# Altium schematic symbol library Schlib.SchLib: 58 symbols (part 1 of 3)
Pins are listed as number, name and electrical type; pins without a type are passive.

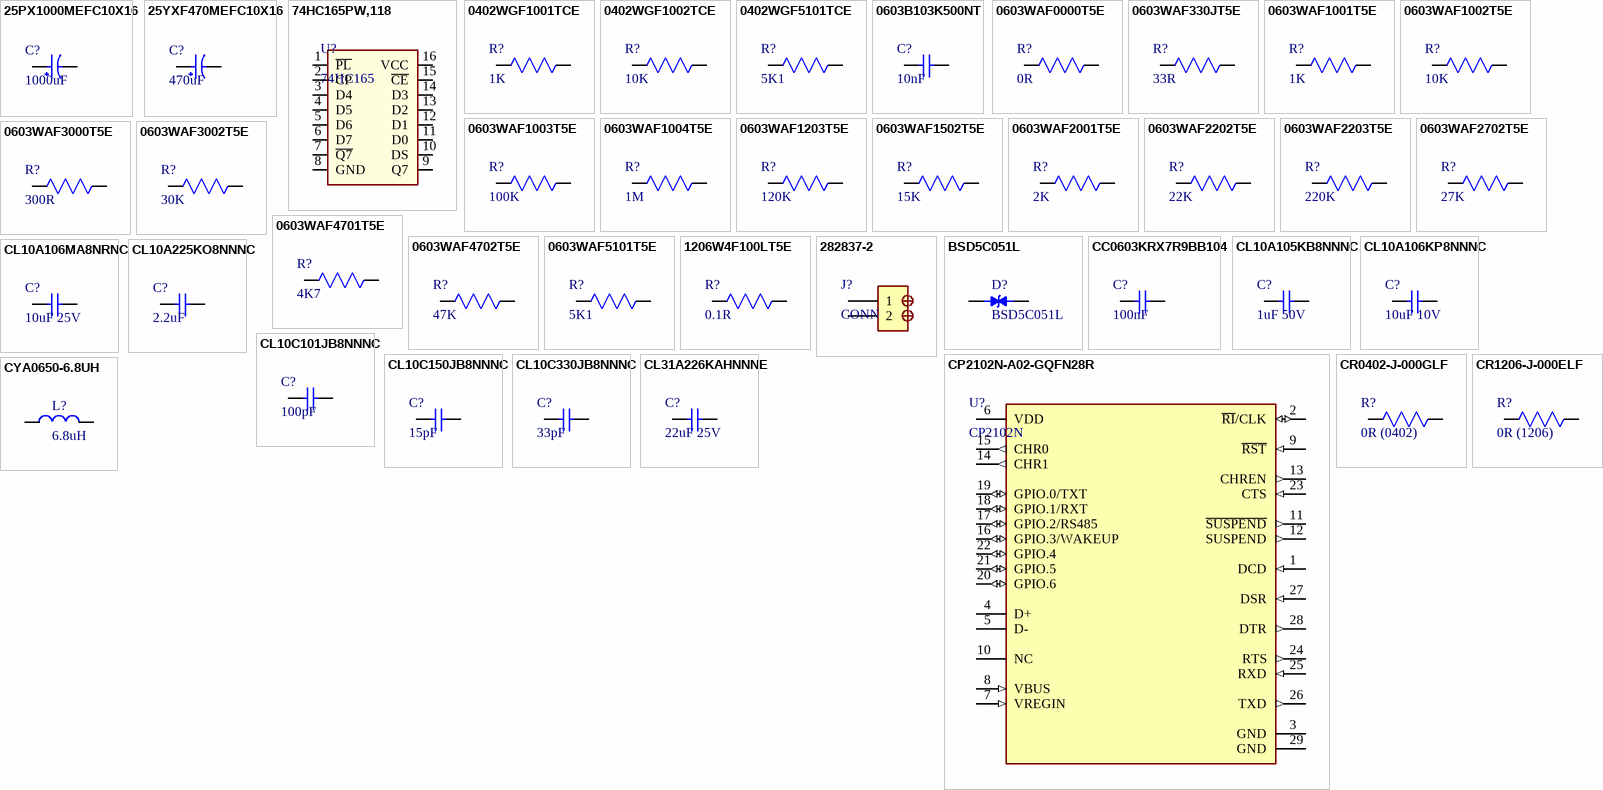
[diagram p0: symbols 25PX1000MEFC10X16 to CYA0650-6.8UH]

## 25PX1000MEFC10X16
designator C?, comment 1000uF
Radial Can ALUMINUM ELECTROLYTIC CAPACITOR PX 25V 1000uF ±20% 0.394Dia 10.00mm; Manufacturer: Rubycon; Manufacturer Part Number: 25PX1000MEFC10X16; Leakage Current: 250µA; Life (Hours): 2000hours; Polarity: Polar; Ripple Current: 740mA; Supplier: DigiKey; Supplier Part Number: 1189-3681-ND; RoHS: Compliant; Category: Aluminum Electrolytic Capacitors; Stock: 34; Pricing: 1=0.69, 10=0.433, 50=0.3236, 100=0.2888, 500=0.22892, 1000=0.21, 3000=0.18634, 5000=0.17749 (USD); Value: 1000uF; Case/Package: Radial; Country of Origin: Japan; Diameter: 10mm; Export Control Classification Number (ECCN) Code: EAR99; Height: 16mm; Height - Seated (Max): 17.4752mm; Harmonized Tariff Schedule (HTS) Code: 8532.22.00.20; Introduction Date: 2011-09-22; Lead Pitch: 5mm; Length: 16mm; Lifecycle Status: Production; Max Operating Temperature: 105°C; Min Operating Temperature: -55°C; Mounting Technology: Through Hole; Pins: 2; Number of Terminals: 2; Packaging: Bulk; Radiation Hardening: No; REACH SVHC: Yes; Terminal Pitch: 5mm; Termination: Radial; Tolerance: 20%; Voltage Rating: 25V; Voltage Rating (DC): 25V; ComponentLink1URL: https://datasheet.octopart.com:443/25PX1000MEFC10X16-Rubycon-datasheet-159569471.pdf?src-supplier=IHS; ComponentLink1Description: https://datasheet.octopart.com:443/25PX1000MEFC10X16-Rubycon-datasheet-159569471.pdf?src-supplier=IHS; ComponentLink2URL: https://datasheet.octopart.com:443/25PX1000MEFC10X16-Rubycon-datasheet-86451557.pdf?src-supplier=Master+Electronics; ComponentLink2Description: https://datasheet.octopart.com:443/25PX1000MEFC10X16-Rubycon-datasheet-86451557.pdf?src-supplier=Master+Electronics; ComponentLink3URL: https://datasheet.octopart.com:443/25PX1000MEFC10X16-Rubycon-datasheet-41169268.pdf?src-supplier=Farnell; ComponentLink3Description: https://datasheet.octopart.com:443/25PX1000MEFC10X16-Rubycon-datasheet-41169268.pdf?src-supplier=Farnell; ComponentLink4URL: https://datasheet.octopart.com:443/25PX1000MEFC10X16-Rubycon-datasheet-12529491.pdf?src-supplier=Future+Electronics; ComponentLink4Description: https://datasheet.octopart.com:443/25PX1000MEFC10X16-Rubycon-datasheet-12529491.pdf?src-supplier=Future+Electronics; ComponentLink5URL: https://datasheet.octopart.com:443/25PX1000MEFC10X16-Rubycon-datasheet-155906914.pdf?src-supplier=Future+Electronics; ComponentLink5Description: https://datasheet.octopart.com:443/25PX1000MEFC10X16-Rubycon-datasheet-155906914.pdf?src-supplier=Future+Electronics
footprint Cap_D10xP5xL16
pins: 1, 2

## 25YXF470MEFC10X16
designator C?, comment 470uF
Radial Can ALUMINUM ELECTROLYTIC CAPACITOR YXF 25V 470muF 卤20% 0.394Dia 10.00mm; Manufacturer: Rubycon; Manufacturer Part Number: 25YXF470MEFC10X16; Value: 470µF; Dielectric Material: Aluminium; Impedance: 120mΩ; Leakage Current: 117.5µA; Life (Hours): 7000hours; Ripple Current: 577.5mA; Tolerance: 20%; Supplier: Arrow Electronics; Supplier Part Number: 25YXF470MEFC10X16; RoHS: Compliant; Category: Aluminum Electrolytic Capacitors; Case/Package: Radial; Diameter: 10mm; Height: 16mm; Height - Seated (Max): 17.5006mm; Lead Free: Lead Free; Lead Pitch: 5mm; Length: 16mm; Lifecycle Status: Obsolete; Max Operating Temperature: 105°C; Min Operating Temperature: -40°C; Mounting Technology: Through Hole; Pins: 2; Number of Terminals: 2; Packaging: Bulk; Radiation Hardening: No; REACH SVHC: Yes; Schedule B: 8532220020; Terminal Pitch: 5mm; Termination: Radial; Voltage Rating: 25V; Voltage Rating (DC): 25V; ComponentLink1URL: https://datasheet.octopart.com:443/25YXF470MEFC10X16-Rubycon-datasheet-182101233.pdf?src-supplier=IHS; ComponentLink1Description: https://datasheet.octopart.com:443/25YXF470MEFC10X16-Rubycon-datasheet-182101233.pdf?src-supplier=IHS; ComponentLink2URL: https://datasheet.octopart.com:443/25YXF470MEFC10X16-Rubycon-datasheet-12512315.pdf?src-supplier=LKR; ComponentLink2Description: https://datasheet.octopart.com:443/25YXF470MEFC10X16-Rubycon-datasheet-12512315.pdf?src-supplier=LKR; ComponentLink3URL: https://datasheet.octopart.com:443/25YXF470MEFC10X16-Rubycon-datasheet-11966930.pdf?src-supplier=element14+APAC; ComponentLink3Description: https://datasheet.octopart.com:443/25YXF470MEFC10X16-Rubycon-datasheet-11966930.pdf?src-supplier=element14+APAC; ComponentLink4URL: https://datasheet.octopart.com:443/25YXF470MEFC10X16-Rubycon-datasheet-10032391.pdf?src-supplier=element14+APAC; ComponentLink4Description: https://datasheet.octopart.com:443/25YXF470MEFC10X16-Rubycon-datasheet-10032391.pdf?src-supplier=element14+APAC; ComponentLink5URL: https://datasheet.octopart.com:443/25YXF470MEFC10X16-Rubycon-datasheet-8447018.pdf?src-supplier=element14+APAC; ComponentLink5Description: https://datasheet.octopart.com:443/25YXF470MEFC10X16-Rubycon-datasheet-8447018.pdf?src-supplier=element14+APAC; ComponentLink6URL: https://datasheet.octopart.com:443/25YXF470MEFC10X16-Rubycon-datasheet-5377913.pdf?src-supplier=element14+APAC; ComponentLink6Description: https://datasheet.octopart.com:443/25YXF470MEFC10X16-Rubycon-datasheet-5377913.pdf?src-supplier=element14+APAC; ComponentLink7URL: https://datasheet.octopart.com:443/25YXF470MEFC10X16-Rubycon-datasheet-66579749.pdf?src-supplier=element14+APAC; ComponentLink7Description: https://datasheet.octopart.com:443/25YXF470MEFC10X16-Rubycon-datasheet-66579749.pdf?src-supplier=element14+APAC; ComponentLink8URL: https://datasheet.octopart.com:443/25YXF470MEFC10X16-Rubycon-datasheet-154786052.pdf?src-supplier=JRH+Electronics; ComponentLink8Description: https://datasheet.octopart.com:443/25YXF470MEFC10X16-Rubycon-datasheet-154786052.pdf?src-supplier=JRH+Electronics; ComponentLink9URL: https://datasheet.octopart.com:443/25YXF470MEFC10X16-Rubycon-datasheet-86451560.pdf?src-supplier=Farnell; ComponentLink9Description: https://datasheet.octopart.com:443/25YXF470MEFC10X16-Rubycon-datasheet-86451560.pdf?src-supplier=Farnell; ComponentLink10URL: https://datasheet.octopart.com:443/25YXF470MEFC10X16-Rubycon-datasheet-41194730.pdf?src-supplier=Farnell; ComponentLink10Description: https://datasheet.octopart.com:443/25YXF470MEFC10X16-Rubycon-datasheet-41194730.pdf?src-supplier=Farnell; ComponentLink11URL: https://datasheet.octopart.com:443/25YXF470MEFC10X16-Rubycon-datasheet-504709.pdf?src-supplier=Farnell; ComponentLink11Description: https://datasheet.octopart.com:443/25YXF470MEFC10X16-Rubycon-datasheet-504709.pdf?src-supplier=Farnell; ComponentLink12URL: https://datasheet.octopart.com:443/25YXF470MEFC10X16-Rubycon-datasheet-155906919.pdf?src-supplier=Future+Electronics; ComponentLink12Description: https://datasheet.octopart.com:443/25YXF470MEFC10X16-Rubycon-datasheet-155906919.pdf?src-supplier=Future+Electronics; ComponentLink13URL: https://datasheet.octopart.com:443/25YXF470MEFC10X16-Rubycon-datasheet-5377475.pdf?src-supplier=Garrett; ComponentLink13Description: https://datasheet.octopart.com:443/25YXF470MEFC10X16-Rubycon-datasheet-5377475.pdf?src-supplier=Garrett
footprint Cap_D10xP5xL16
pins: 1, 2

## 74HC165PW,118
designator U?, comment 74HC165
74HC Series 6 V 8-Bit Parallel-In/Serial Out Shift Register - TSSOP-16; Manufacturer: Nexperia; Manufacturer Part Number: 74HC165PW,118; Manufacturer Lifecycle Status: RELEASED FOR SUPPLY; Clock Edge Trigger Type: Positive Edge; Direction: Unidirectional; Frequency: 20MHz; Load Capacitance: 50pF; Logic Function: OR, Shift Register; Max Supply Current: 50mA; Max Supply Voltage: 6V; Min Supply Voltage: 2V; Number of Bits: 8; Number of Circuits: 1; Number of Gates: 4; Number of Input Lines: 9; Operating Supply Voltage: 5V; Output Current: 5.2mA; Propagation Delay: 250ns; Quiescent Current: 8µA; Supplier: Avnet; Supplier Part Number: 74HC165PW,118; RoHS: Compliant; Category: Shift Registers; Stock: 252500; Pricing: 2500=0.19757, 5000=0.19267, 10000=0.18992, 20000=0.18715, 40000=0.1844 (USD); Case/Package: TSSOP; China RoHS: Compliant; Contact Plating: Gold; Height - Seated (Max): 1.1mm; Harmonized Tariff Schedule (HTS) Code: 8542.39.00.01; Introduction Date: 1990-12-01; Lead Free: Lead Free; Length: 5mm; Lifecycle Status: Production; Max Operating Temperature: 125°C; Min Operating Temperature: -40°C; Mounting Technology: Surface Mount; Number of Bits per Element: 8; Number of Elements: 1; Number of Inputs: 8; Number of Output Lines: 1; Pins: 16; Number of Terminals: 16; Radiation Hardening: No; REACH SVHC: Yes; Schedule B: 8542390000, 8542390000|8542390000|8542390000|8542390000|8542390000; Temperature Grade: Automotive; Terminal Pitch: 650µm; Turn-On Delay Time: 250ns; Width: 4.4mm; ComponentLink1URL: https://datasheet.octopart.com:443/74HC165PW%2C118-Nexperia-datasheet-80324119.pdf?src-supplier=Augswan; ComponentLink1Description: https://datasheet.octopart.com:443/74HC165PW%2C118-Nexperia-datasheet-80324119.pdf?src-supplier=Augswan; ComponentLink2URL: https://datasheet.octopart.com:443/74HC165PW%2C118-Nexperia-datasheet-540822.pdf?src-supplier=IHS; ComponentLink2Description: https://datasheet.octopart.com:443/74HC165PW%2C118-Nexperia-datasheet-540822.pdf?src-supplier=IHS; ComponentLink3URL: https://datasheet.octopart.com:443/74HC165PW%2C118-Nexperia-datasheet-62067705.pdf?src-supplier=Newark; ComponentLink3Description: https://datasheet.octopart.com:443/74HC165PW%2C118-Nexperia-datasheet-62067705.pdf?src-supplier=Newark; ComponentLink4URL: https://datasheet.octopart.com:443/74HC165PW%2C118-Nexperia-datasheet-180922443.pdf?src-supplier=TME; ComponentLink4Description: https://datasheet.octopart.com:443/74HC165PW%2C118-Nexperia-datasheet-180922443.pdf?src-supplier=TME; ComponentLink5URL: https://datasheet.octopart.com:443/74HC165PW%2C118-NXP-Semiconductors-datasheet-12514615.pdf?src-supplier=element14+APAC; ComponentLink5Description: https://datasheet.octopart.com:443/74HC165PW%2C118-NXP-Semiconductors-datasheet-12514615.pdf?src-supplier=element14+APAC; ComponentLink6URL: https://datasheet.octopart.com:443/74HC165PW%2C118-NXP-Semiconductors-datasheet-15937044.pdf?src-supplier=iiiC; ComponentLink6Description: https://datasheet.octopart.com:443/74HC165PW%2C118-NXP-Semiconductors-datasheet-15937044.pdf?src-supplier=iiiC; ComponentLink7URL: http://sigma.octopart.com:80/reach_statement/NXP-Semiconductors-company-13.pdf?src-supplier=Compliance+Statements; ComponentLink7Description: http://sigma.octopart.com:80/reach_statement/NXP-Semiconductors-company-13.pdf?src-supplier=Compliance+Statements; ComponentLink8URL: http://sigma.octopart.com:80/rohs_statement/NXP-Semiconductors-company-12.pdf?src-supplier=Compliance+Statements; ComponentLink8Description: http://sigma.octopart.com:80/rohs_statement/NXP-Semiconductors-company-12.pdf?src-supplier=Compliance+Statements; JLCPCB Part Number: C80696
footprint TSSOP-16
pins: 1 ~{PL}, 2 CP, 3 D4, 4 D5, 5 D6, 6 D7, 7 ~{Q7}, 8 GND, 9 Q7, 10 DS, 11 D0, 12 D1, 13 D2, 14 D3, 15 ~{CE}, 16 VCC

## 0402WGF1001TCE
designator R?, comment 1K
62.5mW Thick Film Resistors 50V ±100ppm/℃ ±1% 1kΩ 0402 Chip Resistor - Surface Mount ROHS; Manufacturer: Royal Ohm; Manufacturer Part Number: 0402WGF1001TCE; Temperature Coefficient: 100ppm/°C; Supplier: Mouser; Supplier Part Number: 303-0402WGF1001TCE; Category: Chip SMD Resistors; Pricing: 10000=0.001 (USD); Value: 1kΩ; RoHS: Non-Compliant; ComponentLink1URL: https://datasheet.octopart.com:443/0402WGF1001TCE-Royal-Ohm-datasheet-165785611.pdf?src-supplier=TME; ComponentLink1Description: https://datasheet.octopart.com:443/0402WGF1001TCE-Royal-Ohm-datasheet-165785611.pdf?src-supplier=TME; ComponentLink2URL: https://datasheet.octopart.com:443/0402WGF1001TCE-Royal-Ohm-datasheet-157855877.pdf?src-supplier=TME; ComponentLink2Description: https://datasheet.octopart.com:443/0402WGF1001TCE-Royal-Ohm-datasheet-157855877.pdf?src-supplier=TME; ComponentLink3URL: https://datasheet.octopart.com:443/0402WGF1001TCE-Royal-Ohm-datasheet-62069544.pdf?src-supplier=TME; ComponentLink3Description: https://datasheet.octopart.com:443/0402WGF1001TCE-Royal-Ohm-datasheet-62069544.pdf?src-supplier=TME; ComponentLink4URL: https://datasheet.octopart.com:443/0402WGF1001TCE-Royal-Ohm-datasheet-17591902.pdf?src-supplier=TME; ComponentLink4Description: https://datasheet.octopart.com:443/0402WGF1001TCE-Royal-Ohm-datasheet-17591902.pdf?src-supplier=TME; JLCPCB Part Number: C11702
footprint RES_RC_L_RC0402_YAG
pins: 1, 2

## 0402WGF1002TCE
designator R?, comment 10K
Res Thick Film 0402 10K Ohm 1% 0.063W(1/16W) ±100ppm/C Pad SMD T/R; Manufacturer: Royal Ohm; Manufacturer Part Number: 0402WGF1002TCE; Temperature Coefficient: 100ppm/°C; Value: 10kΩ; Supplier: Mouser; Supplier Part Number: 303-0402WGF1002TCE; Category: Chip SMD Resistors; Stock: 100000; Pricing: 10000=0.001 (USD); RoHS: Non-Compliant; ComponentLink1URL: https://datasheet.octopart.com:443/0402WGF1002TCE-Royal-Ohm-datasheet-165785611.pdf?src-supplier=TME; ComponentLink1Description: https://datasheet.octopart.com:443/0402WGF1002TCE-Royal-Ohm-datasheet-165785611.pdf?src-supplier=TME; ComponentLink2URL: https://datasheet.octopart.com:443/0402WGF1002TCE-Royal-Ohm-datasheet-157855877.pdf?src-supplier=TME; ComponentLink2Description: https://datasheet.octopart.com:443/0402WGF1002TCE-Royal-Ohm-datasheet-157855877.pdf?src-supplier=TME; ComponentLink3URL: https://datasheet.octopart.com:443/0402WGF1002TCE-Royal-Ohm-datasheet-62069544.pdf?src-supplier=TME; ComponentLink3Description: https://datasheet.octopart.com:443/0402WGF1002TCE-Royal-Ohm-datasheet-62069544.pdf?src-supplier=TME; ComponentLink4URL: https://datasheet.octopart.com:443/0402WGF1002TCE-Royal-Ohm-datasheet-17591902.pdf?src-supplier=TME; ComponentLink4Description: https://datasheet.octopart.com:443/0402WGF1002TCE-Royal-Ohm-datasheet-17591902.pdf?src-supplier=TME; JLCPCB Part Number: C25744
footprint RES_RC_L_RC0402_YAG
pins: 1, 2

## 0402WGF5101TCE
designator R?, comment 5K1
Res Thick Film 0402 5.1K Ohm 1% 0.063W(1/16W) ±100ppm/C Pad SMD T/R; Manufacturer: Royal Ohm; Manufacturer Part Number: 0402WGF5101TCE; Value: 5.1kΩ; Temperature Coefficient: 100ppm/°C; Supplier: Mouser; Supplier Part Number: 303-0402WGF5101TCE; Category: Chip SMD Resistors; Stock: 20000; Pricing: 10000=0.004 (USD); ComponentLink1URL: https://datasheet.octopart.com:443/0402WGF5101TCE-Royal-Ohm-datasheet-165785611.pdf?src-supplier=TME; ComponentLink1Description: https://datasheet.octopart.com:443/0402WGF5101TCE-Royal-Ohm-datasheet-165785611.pdf?src-supplier=TME; ComponentLink2URL: https://datasheet.octopart.com:443/0402WGF5101TCE-Royal-Ohm-datasheet-157855877.pdf?src-supplier=TME; ComponentLink2Description: https://datasheet.octopart.com:443/0402WGF5101TCE-Royal-Ohm-datasheet-157855877.pdf?src-supplier=TME; ComponentLink3URL: https://datasheet.octopart.com:443/0402WGF5101TCE-Royal-Ohm-datasheet-62069544.pdf?src-supplier=TME; ComponentLink3Description: https://datasheet.octopart.com:443/0402WGF5101TCE-Royal-Ohm-datasheet-62069544.pdf?src-supplier=TME; ComponentLink4URL: https://datasheet.octopart.com:443/0402WGF5101TCE-Royal-Ohm-datasheet-17591902.pdf?src-supplier=TME; ComponentLink4Description: https://datasheet.octopart.com:443/0402WGF5101TCE-Royal-Ohm-datasheet-17591902.pdf?src-supplier=TME; ComponentLink5URL: https://datasheet.octopart.com:443/0402WGF5101TCE-Royal-Ohm-datasheet-181080982.pdf?src-supplier=Rapid+Electronics; ComponentLink5Description: https://datasheet.octopart.com:443/0402WGF5101TCE-Royal-Ohm-datasheet-181080982.pdf?src-supplier=Rapid+Electronics; JLCPCB Part Number: C25905
footprint RES_RC_L_RC0402_YAG
pins: 1, 2

## 0603B103K500NT
designator C?, comment 10nF
Ceramic Capacitor, Multilayer, Ceramic, 50V, 10% +Tol, 10% -Tol, X7R, 15% TC, 0.01uF, Surface Mount, 0603; Manufacturer: Knowles; Manufacturer Part Number: 0603B103K500NT; Supplier: Mouser; Supplier Part Number: 843-0603B103K500NT; Category: Ceramic Capacitors; Stock: 11050; Pricing: 1=1.01, 10=0.507, 50=0.507, 100=0.463, 1000=0.365, 10000=0.303 (USD); Value: 10nF; China RoHS: Non-Compliant; Country of Origin: Mainland China, USA; Dielectric Material: Ceramic; Export Control Classification Number (ECCN) Code: EAR99; Height: 889µm; Harmonized Tariff Schedule (HTS) Code: 8532.24.00.20; Introduction Date: 2006-04-10; Length: 1.52mm; Lifecycle Status: Production; Max Operating Temperature: 125°C; Min Operating Temperature: -55°C; Mounting Technology: Surface Mount; Number of Terminals: 2; REACH SVHC: No; RoHS: Non-Compliant; Voltage Rating (DC): 50V; Width: 762µm; ComponentLink1URL: https://datasheet.octopart.com:443/0603B103K500NT-Knowles-datasheet-136501453.pdf?src-supplier=RFMW; ComponentLink1Description: https://datasheet.octopart.com:443/0603B103K500NT-Knowles-datasheet-136501453.pdf?src-supplier=RFMW; ComponentLink2URL: https://datasheet.octopart.com:443/0603B103K500NT-Knowles-datasheet-137194379.pdf?src-supplier=Component+Distributors+Inc.; ComponentLink2Description: https://datasheet.octopart.com:443/0603B103K500NT-Knowles-datasheet-137194379.pdf?src-supplier=Component+Distributors+Inc.; ComponentLink3URL: https://datasheet.octopart.com:443/0603B103K500NT-Knowles-datasheet-23628174.pdf?src-supplier=Component+Distributors+Inc.; ComponentLink3Description: https://datasheet.octopart.com:443/0603B103K500NT-Knowles-datasheet-23628174.pdf?src-supplier=Component+Distributors+Inc.; Package: 0603; JLCPCB Part Number: C57112
footprint CAP_0603
pins: 1, 2

## 0603WAF0000T5E
designator R?, comment 0R
Thick Film Resistors - SMD RMC 0603 1/10W 1% T/R-5000; Manufacturer: Royal Ohm; Manufacturer Part Number: 0603WAF0000T5E; Value: 0Ω; Supplier: Mouser; Supplier Part Number: 303-0603WAF0000T5E; Category: Uncategorized; Stock: 140000; Pricing: 10000=0.001 (USD); ComponentLink1URL: https://datasheet.octopart.com:443/0603WAF0000T5E-Royal-Ohm-datasheet-165785611.pdf?src-supplier=TME; ComponentLink1Description: https://datasheet.octopart.com:443/0603WAF0000T5E-Royal-Ohm-datasheet-165785611.pdf?src-supplier=TME; ComponentLink2URL: https://datasheet.octopart.com:443/0603WAF0000T5E-Royal-Ohm-datasheet-157855877.pdf?src-supplier=TME; ComponentLink2Description: https://datasheet.octopart.com:443/0603WAF0000T5E-Royal-Ohm-datasheet-157855877.pdf?src-supplier=TME; ComponentLink3URL: https://datasheet.octopart.com:443/0603WAF0000T5E-Royal-Ohm-datasheet-62069544.pdf?src-supplier=TME; ComponentLink3Description: https://datasheet.octopart.com:443/0603WAF0000T5E-Royal-Ohm-datasheet-62069544.pdf?src-supplier=TME; Package: 0603; JLCPCB Part Number: C21189
footprint RES_0603
pins: 1, 2

## 0603WAF330JT5E
designator R?, comment 33R
Thick Film Resistors - SMD RMC 0603 1/10W 1% T/R-5000; Manufacturer: Royal Ohm; Manufacturer Part Number: 0603WAF330JT5E; Value: 33Ω; Supplier: Mouser; Supplier Part Number: 303-0603WAF330JT5E; Category: Uncategorized; Stock: 55000; Pricing: 10000=0.001 (USD); ComponentLink1URL: https://datasheet.octopart.com:443/0603WAF330JT5E-Royal-Ohm-datasheet-165785611.pdf?src-supplier=TME; ComponentLink1Description: https://datasheet.octopart.com:443/0603WAF330JT5E-Royal-Ohm-datasheet-165785611.pdf?src-supplier=TME; ComponentLink2URL: https://datasheet.octopart.com:443/0603WAF330JT5E-Royal-Ohm-datasheet-157855877.pdf?src-supplier=TME; ComponentLink2Description: https://datasheet.octopart.com:443/0603WAF330JT5E-Royal-Ohm-datasheet-157855877.pdf?src-supplier=TME; ComponentLink3URL: https://datasheet.octopart.com:443/0603WAF330JT5E-Royal-Ohm-datasheet-62069544.pdf?src-supplier=TME; ComponentLink3Description: https://datasheet.octopart.com:443/0603WAF330JT5E-Royal-Ohm-datasheet-62069544.pdf?src-supplier=TME; Package: 0603; JLCPCB Part Number: C23140
footprint RES_0603
pins: 1, 2

## 0603WAF1001T5E
designator R?, comment 1K
Res Thick Film 0603 1K Ohm 1% 0.1W(1/10W) ±100ppm/C Pad SMD T/R; Manufacturer: Royal Ohm; Manufacturer Part Number: 0603WAF1001T5E; Value: 1kΩ; Supplier: Mouser; Supplier Part Number: 303-0603WAF1001T5E; Category: Uncategorized; Stock: 275000; Pricing: 10000=0.001 (USD); ComponentLink1URL: https://datasheet.octopart.com:443/0603WAF1001T5E-Royal-Ohm-datasheet-165785611.pdf?src-supplier=TME; ComponentLink1Description: https://datasheet.octopart.com:443/0603WAF1001T5E-Royal-Ohm-datasheet-165785611.pdf?src-supplier=TME; ComponentLink2URL: https://datasheet.octopart.com:443/0603WAF1001T5E-Royal-Ohm-datasheet-157855877.pdf?src-supplier=TME; ComponentLink2Description: https://datasheet.octopart.com:443/0603WAF1001T5E-Royal-Ohm-datasheet-157855877.pdf?src-supplier=TME; ComponentLink3URL: https://datasheet.octopart.com:443/0603WAF1001T5E-Royal-Ohm-datasheet-62069544.pdf?src-supplier=TME; ComponentLink3Description: https://datasheet.octopart.com:443/0603WAF1001T5E-Royal-Ohm-datasheet-62069544.pdf?src-supplier=TME; Package: 0603; JLCPCB Part Number: C21190
footprint RES_0603
pins: 1, 2

## 0603WAF1002T5E
designator R?, comment 10K
Res Thick Film 0603 10K Ohm 1% 0.1W(1/10W) ±100ppm/C Pad SMD; Manufacturer: Royal Ohm; Manufacturer Part Number: 0603WAF1002T5E; Value: 10kΩ; Supplier: Mouser; Supplier Part Number: 303-0603WAF1002T5E; Category: Uncategorized; Stock: 375000; Pricing: 10000=0.001 (USD); ComponentLink1URL: https://datasheet.octopart.com:443/0603WAF1002T5E-Royal-Ohm-datasheet-165785611.pdf?src-supplier=TME; ComponentLink1Description: https://datasheet.octopart.com:443/0603WAF1002T5E-Royal-Ohm-datasheet-165785611.pdf?src-supplier=TME; ComponentLink2URL: https://datasheet.octopart.com:443/0603WAF1002T5E-Royal-Ohm-datasheet-157855877.pdf?src-supplier=TME; ComponentLink2Description: https://datasheet.octopart.com:443/0603WAF1002T5E-Royal-Ohm-datasheet-157855877.pdf?src-supplier=TME; ComponentLink3URL: https://datasheet.octopart.com:443/0603WAF1002T5E-Royal-Ohm-datasheet-62069544.pdf?src-supplier=TME; ComponentLink3Description: https://datasheet.octopart.com:443/0603WAF1002T5E-Royal-Ohm-datasheet-62069544.pdf?src-supplier=TME; Package: 0603; JLCPCB Part Number: C25804
footprint RES_0603
pins: 1, 2

## 0603WAF1003T5E
designator R?, comment 100K
Res Thick Film 0603 100K Ohm 1% 0.1W(1/10W) ±100ppm/C Pad SMD T/R; Manufacturer: Royal Ohm; Manufacturer Part Number: 0603WAF1003T5E; Value: 100kΩ; Supplier: Mouser; Supplier Part Number: 303-0603WAF1003T5E; Category: Uncategorized; Stock: 180000; Pricing: 10000=0.001 (USD); ComponentLink1URL: https://datasheet.octopart.com:443/0603WAF1003T5E-Royal-Ohm-datasheet-165785611.pdf?src-supplier=TME; ComponentLink1Description: https://datasheet.octopart.com:443/0603WAF1003T5E-Royal-Ohm-datasheet-165785611.pdf?src-supplier=TME; ComponentLink2URL: https://datasheet.octopart.com:443/0603WAF1003T5E-Royal-Ohm-datasheet-157855877.pdf?src-supplier=TME; ComponentLink2Description: https://datasheet.octopart.com:443/0603WAF1003T5E-Royal-Ohm-datasheet-157855877.pdf?src-supplier=TME; ComponentLink3URL: https://datasheet.octopart.com:443/0603WAF1003T5E-Royal-Ohm-datasheet-62069544.pdf?src-supplier=TME; ComponentLink3Description: https://datasheet.octopart.com:443/0603WAF1003T5E-Royal-Ohm-datasheet-62069544.pdf?src-supplier=TME; Package: 0603; JLCPCB Part Number: C25803
footprint RES_0603
pins: 1, 2

## 0603WAF1004T5E
designator R?, comment 1M
Thick Film Resistors - SMD RMC 0603 1/10W 1% T/R-5000; Manufacturer: Royal Ohm; Manufacturer Part Number: 0603WAF1004T5E; Value: 1MΩ; Supplier: Mouser; Supplier Part Number: 303-0603WAF1004T5E; Category: Uncategorized; Stock: 65000; Pricing: 10000=0.001 (USD); ComponentLink1URL: https://datasheet.octopart.com:443/0603WAF1004T5E-Royal-Ohm-datasheet-165785611.pdf?src-supplier=TME; ComponentLink1Description: https://datasheet.octopart.com:443/0603WAF1004T5E-Royal-Ohm-datasheet-165785611.pdf?src-supplier=TME; ComponentLink2URL: https://datasheet.octopart.com:443/0603WAF1004T5E-Royal-Ohm-datasheet-157855877.pdf?src-supplier=TME; ComponentLink2Description: https://datasheet.octopart.com:443/0603WAF1004T5E-Royal-Ohm-datasheet-157855877.pdf?src-supplier=TME; ComponentLink3URL: https://datasheet.octopart.com:443/0603WAF1004T5E-Royal-Ohm-datasheet-62069544.pdf?src-supplier=TME; ComponentLink3Description: https://datasheet.octopart.com:443/0603WAF1004T5E-Royal-Ohm-datasheet-62069544.pdf?src-supplier=TME; Package: 0603; JLCPCB Part Number: C22935
footprint RES_0603
pins: 1, 2

## 0603WAF1203T5E
designator R?, comment 120K
100mW Thick Film Resistors 75V ±100ppm/℃ ±1% 120kΩ 0603 Chip Resistor - Surface Mount ROHS; Manufacturer: Royal Ohm; Manufacturer Part Number: 0603WAF1203T5E; Supplier: Mouser; Supplier Part Number: 303-0603WAF1203T5E; Category: Uncategorized; Stock: 170000; Pricing: 10000=0.001 (USD); Value: 120kΩ; ComponentLink1URL: https://datasheet.octopart.com:443/0603WAF1203T5E-Royal-Ohm-datasheet-165785611.pdf?src-supplier=TME; ComponentLink1Description: https://datasheet.octopart.com:443/0603WAF1203T5E-Royal-Ohm-datasheet-165785611.pdf?src-supplier=TME; ComponentLink2URL: https://datasheet.octopart.com:443/0603WAF1203T5E-Royal-Ohm-datasheet-157855877.pdf?src-supplier=TME; ComponentLink2Description: https://datasheet.octopart.com:443/0603WAF1203T5E-Royal-Ohm-datasheet-157855877.pdf?src-supplier=TME; ComponentLink3URL: https://datasheet.octopart.com:443/0603WAF1203T5E-Royal-Ohm-datasheet-62069544.pdf?src-supplier=TME; ComponentLink3Description: https://datasheet.octopart.com:443/0603WAF1203T5E-Royal-Ohm-datasheet-62069544.pdf?src-supplier=TME; Package: 0603; JLCPCB Part Number: C25808
footprint RES_0603
pins: 1, 2

## 0603WAF1502T5E
designator R?, comment 15K
Thick Film Resistors - SMD RMC 0603 1/10W 1% T/R-5000; Manufacturer: Royal Ohm; Manufacturer Part Number: 0603WAF1502T5E; Value: 15kΩ; Supplier: Mouser; Supplier Part Number: 303-0603WAF1502T5E; Category: Uncategorized; Stock: 5000; Pricing: 10000=0.001 (USD); ComponentLink1URL: https://datasheet.octopart.com:443/0603WAF1502T5E-Royal-Ohm-datasheet-165785611.pdf?src-supplier=TME; ComponentLink1Description: https://datasheet.octopart.com:443/0603WAF1502T5E-Royal-Ohm-datasheet-165785611.pdf?src-supplier=TME; ComponentLink2URL: https://datasheet.octopart.com:443/0603WAF1502T5E-Royal-Ohm-datasheet-157855877.pdf?src-supplier=TME; ComponentLink2Description: https://datasheet.octopart.com:443/0603WAF1502T5E-Royal-Ohm-datasheet-157855877.pdf?src-supplier=TME; ComponentLink3URL: https://datasheet.octopart.com:443/0603WAF1502T5E-Royal-Ohm-datasheet-62069544.pdf?src-supplier=TME; ComponentLink3Description: https://datasheet.octopart.com:443/0603WAF1502T5E-Royal-Ohm-datasheet-62069544.pdf?src-supplier=TME; Package: 0603; JLCPCB Part Number: C22809
footprint RES_0603
pins: 1, 2

## 0603WAF2001T5E
designator R?, comment 2K
Manufacturer: Royal Ohm; Manufacturer Part Number: 0603WAF2001T5E; Value: 2kΩ; Supplier: Mouser; Supplier Part Number: 303-0603WAF2001T5E; Category: Uncategorized; Stock: 60000; Pricing: 10000=0.001 (USD); ComponentLink1URL: https://datasheet.octopart.com:443/0603WAF2001T5E-Royal-Ohm-datasheet-165785611.pdf?src-supplier=TME; ComponentLink1Description: https://datasheet.octopart.com:443/0603WAF2001T5E-Royal-Ohm-datasheet-165785611.pdf?src-supplier=TME; ComponentLink2URL: https://datasheet.octopart.com:443/0603WAF2001T5E-Royal-Ohm-datasheet-157855877.pdf?src-supplier=TME; ComponentLink2Description: https://datasheet.octopart.com:443/0603WAF2001T5E-Royal-Ohm-datasheet-157855877.pdf?src-supplier=TME; ComponentLink3URL: https://datasheet.octopart.com:443/0603WAF2001T5E-Royal-Ohm-datasheet-62069544.pdf?src-supplier=TME; ComponentLink3Description: https://datasheet.octopart.com:443/0603WAF2001T5E-Royal-Ohm-datasheet-62069544.pdf?src-supplier=TME; Package: 0603; JLCPCB Part Number: C22975
footprint RES_0603
pins: 1, 2

## 0603WAF2202T5E
designator R?, comment 22K
Res Thick Film 0603 22K Ohm 1% 0.1W(1/10W) ±100ppm/C Pad SMD T/R; Manufacturer: Royal Ohm; Manufacturer Part Number: 0603WAF2202T5E; Value: 22kΩ; Supplier: Mouser; Supplier Part Number: 303-0603WAF2202T5E; Category: Uncategorized; Stock: 70000; Pricing: 10000=0.001 (USD); ComponentLink1URL: https://datasheet.octopart.com:443/0603WAF2202T5E-Royal-Ohm-datasheet-165785611.pdf?src-supplier=TME; ComponentLink1Description: https://datasheet.octopart.com:443/0603WAF2202T5E-Royal-Ohm-datasheet-165785611.pdf?src-supplier=TME; ComponentLink2URL: https://datasheet.octopart.com:443/0603WAF2202T5E-Royal-Ohm-datasheet-157855877.pdf?src-supplier=TME; ComponentLink2Description: https://datasheet.octopart.com:443/0603WAF2202T5E-Royal-Ohm-datasheet-157855877.pdf?src-supplier=TME; ComponentLink3URL: https://datasheet.octopart.com:443/0603WAF2202T5E-Royal-Ohm-datasheet-62069544.pdf?src-supplier=TME; ComponentLink3Description: https://datasheet.octopart.com:443/0603WAF2202T5E-Royal-Ohm-datasheet-62069544.pdf?src-supplier=TME; Package: 0603; JLCPCB Part Number: C31850
footprint RES_0603
pins: 1, 2

## 0603WAF2203T5E
designator R?, comment 220K
Thick Film Resistors - SMD RMC 0603 1/10W 1% T/R-5000; Manufacturer: Royal Ohm; Manufacturer Part Number: 0603WAF2203T5E; Value: 220kΩ; Supplier: Mouser; Supplier Part Number: 303-0603WAF2203T5E; Category: Uncategorized; Stock: 115000; Pricing: 10000=0.001 (USD); ComponentLink1URL: https://datasheet.octopart.com:443/0603WAF2203T5E-Royal-Ohm-datasheet-165785611.pdf?src-supplier=TME; ComponentLink1Description: https://datasheet.octopart.com:443/0603WAF2203T5E-Royal-Ohm-datasheet-165785611.pdf?src-supplier=TME; ComponentLink2URL: https://datasheet.octopart.com:443/0603WAF2203T5E-Royal-Ohm-datasheet-157855877.pdf?src-supplier=TME; ComponentLink2Description: https://datasheet.octopart.com:443/0603WAF2203T5E-Royal-Ohm-datasheet-157855877.pdf?src-supplier=TME; ComponentLink3URL: https://datasheet.octopart.com:443/0603WAF2203T5E-Royal-Ohm-datasheet-62069544.pdf?src-supplier=TME; ComponentLink3Description: https://datasheet.octopart.com:443/0603WAF2203T5E-Royal-Ohm-datasheet-62069544.pdf?src-supplier=TME; Package: 0603; JLCPCB Part Number: C22961
footprint RES_0603
pins: 1, 2

## 0603WAF2702T5E
designator R?, comment 27K
Thick Film Resistors - SMD RMC 0603 1/10W 1% T/R-5000; Manufacturer: Royal Ohm; Manufacturer Part Number: 0603WAF2702T5E; Value: 27kΩ; Supplier: Mouser; Supplier Part Number: 303-0603WAF2702T5E; Category: Uncategorized; Stock: 100000; Pricing: 10000=0.001 (USD); ComponentLink1URL: https://datasheet.octopart.com:443/0603WAF2702T5E-Royal-Ohm-datasheet-165785611.pdf?src-supplier=TME; ComponentLink1Description: https://datasheet.octopart.com:443/0603WAF2702T5E-Royal-Ohm-datasheet-165785611.pdf?src-supplier=TME; ComponentLink2URL: https://datasheet.octopart.com:443/0603WAF2702T5E-Royal-Ohm-datasheet-157855877.pdf?src-supplier=TME; ComponentLink2Description: https://datasheet.octopart.com:443/0603WAF2702T5E-Royal-Ohm-datasheet-157855877.pdf?src-supplier=TME; ComponentLink3URL: https://datasheet.octopart.com:443/0603WAF2702T5E-Royal-Ohm-datasheet-62069544.pdf?src-supplier=TME; ComponentLink3Description: https://datasheet.octopart.com:443/0603WAF2702T5E-Royal-Ohm-datasheet-62069544.pdf?src-supplier=TME; Package: 0603; JLCPCB Part Number: C22967
footprint RES_0603
pins: 1, 2

## 0603WAF3000T5E
designator R?, comment 300R
100mW Thick Film Resistors 75V ±100ppm/℃ ±1% 300Ω 0603 Chip Resistor - Surface Mount ROHS; Manufacturer: Royal Ohm; Manufacturer Part Number: 0603WAF3000T5E; Supplier: Mouser; Supplier Part Number: 303-0603WAF3000T5E; Category: Uncategorized; Pricing: 10000=0.001 (USD); Value: 300Ω; ComponentLink1URL: https://datasheet.octopart.com:443/0603WAF3000T5E-Royal-Ohm-datasheet-165785611.pdf?src-supplier=TME; ComponentLink1Description: https://datasheet.octopart.com:443/0603WAF3000T5E-Royal-Ohm-datasheet-165785611.pdf?src-supplier=TME; ComponentLink2URL: https://datasheet.octopart.com:443/0603WAF3000T5E-Royal-Ohm-datasheet-157855877.pdf?src-supplier=TME; ComponentLink2Description: https://datasheet.octopart.com:443/0603WAF3000T5E-Royal-Ohm-datasheet-157855877.pdf?src-supplier=TME; ComponentLink3URL: https://datasheet.octopart.com:443/0603WAF3000T5E-Royal-Ohm-datasheet-62069544.pdf?src-supplier=TME; ComponentLink3Description: https://datasheet.octopart.com:443/0603WAF3000T5E-Royal-Ohm-datasheet-62069544.pdf?src-supplier=TME; Package: 0603; JLCPCB Part Number: C23025
footprint RES_0603
pins: 1, 2

## 0603WAF3002T5E
designator R?, comment 30K
Thick Film Resistors - SMD RMC 0603 1/10W 1% T/R-5000; Manufacturer: Royal Ohm; Manufacturer Part Number: 0603WAF3002T5E; Value: 30kΩ; Supplier: Mouser; Supplier Part Number: 303-0603WAF3002T5E; Category: Uncategorized; Pricing: 10000=0.001 (USD); ComponentLink1URL: https://datasheet.octopart.com:443/0603WAF3002T5E-Royal-Ohm-datasheet-165785611.pdf?src-supplier=TME; ComponentLink1Description: https://datasheet.octopart.com:443/0603WAF3002T5E-Royal-Ohm-datasheet-165785611.pdf?src-supplier=TME; ComponentLink2URL: https://datasheet.octopart.com:443/0603WAF3002T5E-Royal-Ohm-datasheet-157855877.pdf?src-supplier=TME; ComponentLink2Description: https://datasheet.octopart.com:443/0603WAF3002T5E-Royal-Ohm-datasheet-157855877.pdf?src-supplier=TME; ComponentLink3URL: https://datasheet.octopart.com:443/0603WAF3002T5E-Royal-Ohm-datasheet-62069544.pdf?src-supplier=TME; ComponentLink3Description: https://datasheet.octopart.com:443/0603WAF3002T5E-Royal-Ohm-datasheet-62069544.pdf?src-supplier=TME; Package: 0603; JLCPCB Part Number: C22984
footprint RES_0603
pins: 1, 2

## 0603WAF4701T5E
designator R?, comment 4K7
100mW Thick Film Resistors 75V ±100ppm/℃ ±1% 4.7kΩ 0603 Chip Resistor - Surface Mount ROHS; Manufacturer: Royal Ohm; Manufacturer Part Number: 0603WAF4701T5E; Supplier: Mouser; Supplier Part Number: 303-0603WAF4701T5E; Category: Uncategorized; Stock: 165000; Pricing: 10000=0.001 (USD); Value: 4.7kΩ; ComponentLink1URL: https://datasheet.octopart.com:443/0603WAF4701T5E-Royal-Ohm-datasheet-165785611.pdf?src-supplier=TME; ComponentLink1Description: https://datasheet.octopart.com:443/0603WAF4701T5E-Royal-Ohm-datasheet-165785611.pdf?src-supplier=TME; ComponentLink2URL: https://datasheet.octopart.com:443/0603WAF4701T5E-Royal-Ohm-datasheet-157855877.pdf?src-supplier=TME; ComponentLink2Description: https://datasheet.octopart.com:443/0603WAF4701T5E-Royal-Ohm-datasheet-157855877.pdf?src-supplier=TME; ComponentLink3URL: https://datasheet.octopart.com:443/0603WAF4701T5E-Royal-Ohm-datasheet-62069544.pdf?src-supplier=TME; ComponentLink3Description: https://datasheet.octopart.com:443/0603WAF4701T5E-Royal-Ohm-datasheet-62069544.pdf?src-supplier=TME; Package: 0603; JLCPCB Part Number: C23162
footprint RES_0603
pins: 1, 2

## 0603WAF4702T5E
designator R?, comment 47K
Res Thick Film 0603 47K Ohm 1% 0.1W(1/10W) ±100ppm/C Pad SMD T/R; Manufacturer: Royal Ohm; Manufacturer Part Number: 0603WAF4702T5E; Value: 47kΩ; Supplier: Mouser; Supplier Part Number: 303-0603WAF4702T5E; Category: Uncategorized; Stock: 95000; Pricing: 10000=0.001 (USD); ComponentLink1URL: https://datasheet.octopart.com:443/0603WAF4702T5E-Royal-Ohm-datasheet-165785611.pdf?src-supplier=TME; ComponentLink1Description: https://datasheet.octopart.com:443/0603WAF4702T5E-Royal-Ohm-datasheet-165785611.pdf?src-supplier=TME; ComponentLink2URL: https://datasheet.octopart.com:443/0603WAF4702T5E-Royal-Ohm-datasheet-157855877.pdf?src-supplier=TME; ComponentLink2Description: https://datasheet.octopart.com:443/0603WAF4702T5E-Royal-Ohm-datasheet-157855877.pdf?src-supplier=TME; ComponentLink3URL: https://datasheet.octopart.com:443/0603WAF4702T5E-Royal-Ohm-datasheet-62069544.pdf?src-supplier=TME; ComponentLink3Description: https://datasheet.octopart.com:443/0603WAF4702T5E-Royal-Ohm-datasheet-62069544.pdf?src-supplier=TME; Package: 0603; JLCPCB Part Number: C25819
footprint RES_0603
pins: 1, 2

## 0603WAF5101T5E
designator R?, comment 5K1
Res Thick Film 0603 5.1K Ohm 1% 0.1W(1/10W) ±100ppm/C Pad SMD T/R; Manufacturer: Royal Ohm; Manufacturer Part Number: 0603WAF5101T5E; Value: 5.1kΩ; Supplier: Mouser; Supplier Part Number: 303-0603WAF5101T5E; Category: Uncategorized; Stock: 20000; Pricing: 10000=0.001 (USD); ComponentLink1URL: https://datasheet.octopart.com:443/0603WAF5101T5E-Royal-Ohm-datasheet-165785611.pdf?src-supplier=TME; ComponentLink1Description: https://datasheet.octopart.com:443/0603WAF5101T5E-Royal-Ohm-datasheet-165785611.pdf?src-supplier=TME; ComponentLink2URL: https://datasheet.octopart.com:443/0603WAF5101T5E-Royal-Ohm-datasheet-157855877.pdf?src-supplier=TME; ComponentLink2Description: https://datasheet.octopart.com:443/0603WAF5101T5E-Royal-Ohm-datasheet-157855877.pdf?src-supplier=TME; ComponentLink3URL: https://datasheet.octopart.com:443/0603WAF5101T5E-Royal-Ohm-datasheet-62069544.pdf?src-supplier=TME; ComponentLink3Description: https://datasheet.octopart.com:443/0603WAF5101T5E-Royal-Ohm-datasheet-62069544.pdf?src-supplier=TME; Package: 0603; JLCPCB Part Number: C23186
footprint RES_0603
pins: 1, 2

## 1206W4F100LT5E
designator R?, comment 0.1R
250mW Thick Film Resistors 200V ±800ppm/℃ ±1% 100mΩ 1206 Chip Resistor - Surface Mount ROHS; Manufacturer: Royal Ohm; Manufacturer Part Number: 1206W4F100LT5E; Supplier: Mouser; Supplier Part Number: 303-1206W4F100LT5E; Category: Uncategorized; Pricing: 10000=0.021 (USD); Value: 100mΩ; ComponentLink1URL: https://datasheet.octopart.com:443/1206W4F100LT5E-Royal-Ohm-datasheet-165785611.pdf?src-supplier=TME; ComponentLink1Description: https://datasheet.octopart.com:443/1206W4F100LT5E-Royal-Ohm-datasheet-165785611.pdf?src-supplier=TME; ComponentLink2URL: https://datasheet.octopart.com:443/1206W4F100LT5E-Royal-Ohm-datasheet-62069544.pdf?src-supplier=TME; ComponentLink2Description: https://datasheet.octopart.com:443/1206W4F100LT5E-Royal-Ohm-datasheet-62069544.pdf?src-supplier=TME; Package: 1206; JLCPCB Part Number: C25334
footprint RES_1206
pins: 1, 2

## 282837-2
designator J?, comment CONN
Connector, Terminal Block; Wire Receptacle; 2 Pos.; 16-30 AWG; 0.2 in. CL; Side;; Manufacturer: TE Connectivity; Manufacturer Part Number: 282837-2; Manufacturer Lifecycle Status: ACTIVE; Approvals: UL; Connector System: Wire-to-Board; Current: 13.5A; Gender: Female; Max Supply Voltage (AC): 250V; Number of Circuits: 2; Number of Levels: 1; Operating Supply Voltage: 300V; Pitch: 5.08mm; Plating: Brass; Tail Length: 3.5mm; Thread Size: M3; Wire/Cable Gauge: 15AWG; Wire Gauge (Max): 28AWG; Wire Gauge (Min): 16AWG; Supplier: Future Electronics; Supplier Part Number: 6910608; RoHS: Compliant; Category: Terminal Blocks; Stock: 9; Pricing: 50=0.355, 125=0.345, 250=0.34, 750=0.335, 1500=0.325 (USD); China RoHS: Non-Compliant; Color: Green; Connector Type: Receptacle; Contact Material: Brass; Contact Plating: Tin; Current Rating: 13.5A; Depth: 8.2mm; Export Control Classification Number (ECCN) Code: EAR99; ELV: Compliant; Flammability Rating: UL94 V-0; Height: 10.3mm; Housing Color: Green; Housing Material: Polyamide; Harmonized Tariff Schedule (HTS) Code: 8536.90.40.00; Introduction Date: 1997-11-01; Lead Free: Lead Free; Lifecycle Status: Production; Max Current Rating: 13.5A; Max Operating Temperature: 110°C; Max Voltage Rating (AC): 250V; Min Operating Temperature: -40°C; Mounting Technology: Screw; Number of Contacts: 2; Pins: 2; Number of Poles: 2; Number of Positions: 2; Number of Positions Per Level: 2; Number of Rows: 1; Orientation: Straight; Packaging: Bulk; Radiation Hardening: No; REACH SVHC: No; Termination: Solder; Voltage: 300V; Voltage Rating: 300V; Voltage Rating (AC): 250V; Width: 11.5mm; ComponentLink1URL: https://datasheet.octopart.com:443/282837-2-TE-Connectivity-datasheet-11084709.pdf?src-supplier=Electro+Sonic; ComponentLink1Description: https://datasheet.octopart.com:443/282837-2-TE-Connectivity-datasheet-11084709.pdf?src-supplier=Electro+Sonic; ComponentLink2URL: https://datasheet.octopart.com:443/282837-2-TE-Connectivity-datasheet-180047323.pdf?src-supplier=IHS; ComponentLink2Description: https://datasheet.octopart.com:443/282837-2-TE-Connectivity-datasheet-180047323.pdf?src-supplier=IHS; ComponentLink3URL: https://datasheet.octopart.com:443/282837-2-TE-Connectivity---AMP-datasheet-181444653.pdf?src-supplier=IHS; ComponentLink3Description: https://datasheet.octopart.com:443/282837-2-TE-Connectivity---AMP-datasheet-181444653.pdf?src-supplier=IHS; ComponentLink4URL: https://sigma.octopart.com:443/136669779/technical_drawing/TE-Connectivity-282837-2.pdf?src-supplier=Sager+Electronics; ComponentLink4Description: https://sigma.octopart.com:443/136669779/technical_drawing/TE-Connectivity-282837-2.pdf?src-supplier=Sager+Electronics; ComponentLink5URL: https://datasheet.octopart.com:443/282837-2-TE-Connectivity-datasheet-12103319.pdf?src-supplier=element14+APAC; ComponentLink5Description: https://datasheet.octopart.com:443/282837-2-TE-Connectivity-datasheet-12103319.pdf?src-supplier=element14+APAC; ComponentLink6URL: https://sigma.octopart.com:443/14765542/technical_drawing/TE-Connectivity-282837-2.pdf?src-supplier=TE+Connectivity; ComponentLink6Description: https://sigma.octopart.com:443/14765542/technical_drawing/TE-Connectivity-282837-2.pdf?src-supplier=TE+Connectivity; ComponentLink7URL: https://datasheet.octopart.com:443/282837-2-Agastat-datasheet-13560836.pdf?src-supplier=TE+Connectivity; ComponentLink7Description: https://datasheet.octopart.com:443/282837-2-Agastat-datasheet-13560836.pdf?src-supplier=TE+Connectivity; ComponentLink8URL: https://datasheet.octopart.com:443/282837-2-TE-Connectivity-datasheet-164883459.pdf?src-supplier=Burklin+Elektronik; ComponentLink8Description: https://datasheet.octopart.com:443/282837-2-TE-Connectivity-datasheet-164883459.pdf?src-supplier=Burklin+Elektronik; ComponentLink9URL: https://datasheet.octopart.com:443/282837-2-TE-Connectivity-datasheet-20824500.pdf?src-supplier=RS+(Formerly+Allied+Electronics); ComponentLink9Description: https://datasheet.octopart.com:443/282837-2-TE-Connectivity-datasheet-20824500.pdf?src-supplier=RS+(Formerly+Allied+Electronics); ComponentLink10URL: https://datasheet.octopart.com:443/282837-2-Tyco-Electronics-datasheet-9638290.pdf?src-supplier=RS+(Formerly+Allied+Electronics); ComponentLink10Description: https://datasheet.octopart.com:443/282837-2-Tyco-Electronics-datasheet-9638290.pdf?src-supplier=RS+(Formerly+Allied+Electronics); ComponentLink11URL: https://datasheet.octopart.com:443/282837-2-Tyco-Electronics-datasheet-60025.pdf?src-supplier=RS+(Formerly+Allied+Electronics); ComponentLink11Description: https://datasheet.octopart.com:443/282837-2-Tyco-Electronics-datasheet-60025.pdf?src-supplier=RS+(Formerly+Allied+Electronics); ComponentLink12URL: https://datasheet.octopart.com:443/282837-2-TE-Connectivity---AMP-datasheet-189108469.pdf?src-supplier=Master+Electronics; ComponentLink12Description: https://datasheet.octopart.com:443/282837-2-TE-Connectivity---AMP-datasheet-189108469.pdf?src-supplier=Master+Electronics; ComponentLink13URL: https://datasheet.octopart.com:443/282837-2-TE-Connectivity-datasheet-7829509.pdf?src-supplier=Jameco; ComponentLink13Description: https://datasheet.octopart.com:443/282837-2-TE-Connectivity-datasheet-7829509.pdf?src-supplier=Jameco; ComponentLink14URL: http://sigma.octopart.com:80/38876000/materials_sheet/TE-Connectivity-282837-2.pdf?src-supplier=Compliance+Statements; ComponentLink14Description: http://sigma.octopart.com:80/38876000/materials_sheet/TE-Connectivity-282837-2.pdf?src-supplier=Compliance+Statements; ComponentLink15URL: http://sigma.octopart.com:80/117256993/reach_statement/TE-Connectivity-282837-2.pdf?src-supplier=Compliance+Statements; ComponentLink15Description: http://sigma.octopart.com:80/117256993/reach_statement/TE-Connectivity-282837-2.pdf?src-supplier=Compliance+Statements; ComponentLink16URL: http://sigma.octopart.com:80/136730121/materials_sheet/TE-Connectivity-282837-2.pdf?src-supplier=Compliance+Statements; ComponentLink16Description: http://sigma.octopart.com:80/136730121/materials_sheet/TE-Connectivity-282837-2.pdf?src-supplier=Compliance+Statements; ComponentLink17URL: http://sigma.octopart.com:80/14765540/rohs_certificate/Agastat-282837-2.pdf?src-supplier=Compliance+Statements; ComponentLink17Description: http://sigma.octopart.com:80/14765540/rohs_certificate/Agastat-282837-2.pdf?src-supplier=Compliance+Statements
footprint TE_282837-2
pins: 1, 2

## BSD5C051L
designator D?
1 13V 150nA 2.5pF 3A@8/20us 5V 6V Bidirectional ESD IEC 61000-4-2、IEC 61000-4-5、IEC 61000-4-4 SOD-523 ESD and Surge Protection (TVS/ESD) ROHS; MF: Leshan Radio Co.; Check_prices: https://www.snapeda.com/parts/LESD5D5.0CT1G/Leshan+Radio+Co./view-part/?ref=eda; Value: *; Availability: Not in stock; Package: None; SnapEDA_Link: https://www.snapeda.com/parts/LESD5D5.0CT1G/Leshan+Radio+Co./view-part/?ref=snap; MP: BSD5C051L; Price: None; JLCPCB Part Number: C151983
footprint TVS_SOD-523
pins: 1, 2